# EAGLE library part 690368182072 (library Wuerth_Elektronik_eiCan_MiniModule_Connectors_v1.2)
WR-MM Female Angled Connector without Latch and without Polarization, 20 Pins
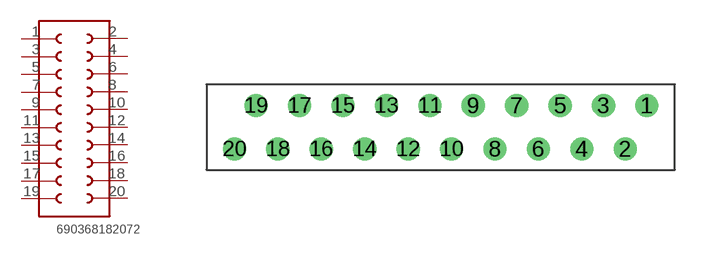
[diagram p18: symbol with the pads of 690368182072; footprint 690368182072]

Designator prefix K

## 690368182072  [690368182072]
1  1  pas
2  20  pas
3  2  pas
4  19  pas
5  3  pas
6  18  pas
7  4  pas
8  17  pas
9  5  pas
10  16  pas
11  6  pas
12  15  pas
13  7  pas
14  14  pas
15  8  pas
16  13  pas
17  9  pas
18  12  pas
19  10  pas
20  11  pas

## Footprint 690368182072 (pad centres in mm)
WR-MM Female Angled Connector without Latch and without Polarization, 20 Pins
drill 0.85 round: 1 12.065,1.27; 2 10.795,-1.27; 3 9.525,1.27; 4 8.255,-1.27; 5 6.985,1.27; 6 5.715,-1.27; 7 4.445,1.27; 8 3.175,-1.27; 9 1.905,1.27; 10 0.635,-1.27; 11 -0.635,1.27; 12 -1.905,-1.27; 13 -3.175,1.27; 14 -4.445,-1.27; 15 -5.715,1.27; 16 -6.985,-1.27; 17 -8.255,1.27; 18 -9.525,-1.27; 19 -10.795,1.27; 20 -12.065,-1.27